# Altium schematic symbol library SCH_Connectors.SchLib: 5 symbols
Pins are listed as number, name and electrical type; pins without a type are passive.

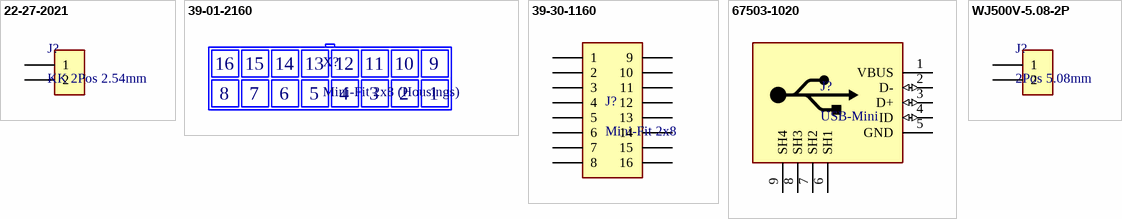
[diagram p0: symbols 22-27-2021 to WJ500V-5.08-2P]

## 22-27-2021
designator J?, comment KK 2Pos 2.54mm
CONN HEADER KK 2POS 2.54MM; Manufacturer: Molex; Number of Contacts: 2; Gender: Male; Contact Resistance: 20mR; Current Rating: 4A; Voltage Rating (AC): 250V; Insulation Resistance: 50GR; Voltage Rating: 500V; Approvals: UL,CSA; Supplier 1: LCSC; Manufacturer Part Number: 22-27-2021; RoHS: Yes; Category: Headers and Wire Housings; Stock 1: 172970; Pricing 1: 5=0,11890, 50=0,09740, 150=0,08670, 500=0,06870, 3000=0,06250, 6000=0,05930 (USD); Mount: Through Hole; Contact Plating: Tin; Contact Material: Tin; Color: White; Housing Color: Natural; Material: Nylon; Housing Material: Nylon; Weight: 0.00769oz; Min Operating Temperature: 0°C; Max Operating Temperature: 75°C; Number of Rows: 1; Termination: Through Hole; Orientation: Straight; Contact Gender: Male; Number of Positions: 2; Number of Circuits: 2; Voltage Rating (DC): 250V; Series: 6410; Package Quantity: 24000; Max Current Rating: 4A; Packaging: Bulk; Working Voltage: 250V; Contact Type: -; Length: 10.16mm; Height: 11.7mm; Pitch: 2.54mm; Lead Pitch: 2.54mm; Depth: 5.8mm; Radiation Hardening: No; Lead Free: Lead Free; Flammability Rating: UL94 V-0; RoHS Compliant: Yes; ComponentLink1URL: https://datasheet.ciiva.com/30177/113940022272021-pcb-headers-30177601.pdf?src-supplier=Onlinecomponents.com; ComponentLink1Description: https://datasheet.ciiva.com/30177/113940022272021-pcb-headers-30177601.pdf?src-supplier=Onlinecomponents.com; ComponentLink2URL: https://datasheet.ciiva.com/5154/0022272021-pcb-headers-227458-5154933.pdf?src-supplier=Mouser; ComponentLink2Description: https://datasheet.ciiva.com/5154/0022272021-pcb-headers-227458-5154933.pdf?src-supplier=Mouser; ComponentLink3URL: https://datasheet.ciiva.com/19462/879254-19462349.pdf?src-supplier=Jameco; ComponentLink3Description: https://datasheet.ciiva.com/19462/879254-19462349.pdf?src-supplier=Jameco; ComponentLink4URL: https://datasheet.ciiva.com/15217/getdatasheetpartid-163454-15217683.pdf?src-supplier=Verical; ComponentLink4Description: https://datasheet.ciiva.com/15217/getdatasheetpartid-163454-15217683.pdf?src-supplier=Verical; Supplier Part Number 1: C293316; Case/Package: PTH-2
footprint 22-27-2021
pins: 1, 2

## 39-01-2160
designator X?, comment Mini-Fit 2x8 (Housings)
CONN RCPT HSG 16POS 4.20MM; Manufacturer: Molex; Connector Type: Receptacle,Power,Rectangular; Gender: Receptacle; Max Voltage Rating (DC): 600V; Number of Positions: 16; Contact Resistance: 10mR; Current Rating: 13A; Voltage Rating (AC): 250V; Pitch: 4.2mm; Row Spacing: 0.165inch; Approvals: UL,CSA,TUV; Glow Wire Compliant: Non-compliant; Supplier 1: Digi-Key; Manufacturer Part Number: 39-01-2160; RoHS: Yes; Category: Headers and Wire Housings; Stock 1: 27697; Pricing 1: 1=0,76000, 10=0,63100, 100=0,52620, 1000=0,42097, 2500=0,38150 (USD); Mount: Free Hanging,Cable; Color: Natural; Housing Material: Nylon; Material: Nylon; Housing Color: Natural; Min Operating Temperature: -40°C; Max Operating Temperature: 105°C; Packaging: Bulk; Termination: Crimp; Orientation: Straight; Series: Mini-Fit® Jr™ 5557; Number of Rows: 2; Number of Contacts: 16; Fastening Type: Latch; Number of Poles: 16; Contact Gender: Female; Package Quantity: 250; Voltage Rating: 600V; Working Voltage: 250V; Contact Type: Female Socket; Max Voltage Rating (AC): 600V; Length: 34.8mm; Width: 15.1mm; Depth: 19.6mm; Radiation Hardening: No; RoHS Compliant: Yes; Halogen Free: Low Halogen; Lead Free: Lead Free; Flammability Rating: UL94 V-2; ComponentLink1URL: https://datasheet.ciiva.com/30103/0039012160-crimp-housings-30103557.pdf?src-supplier=Onlinecomponents.com; ComponentLink1Description: https://datasheet.ciiva.com/30103/0039012160-crimp-housings-30103557.pdf?src-supplier=Onlinecomponents.com; ComponentLink2URL: https://datasheet.ciiva.com/16127/700039012160-crimp-housings-16127229.pdf?src-supplier=Onlinecomponents.com; ComponentLink2Description: https://datasheet.ciiva.com/16127/700039012160-crimp-housings-16127229.pdf?src-supplier=Onlinecomponents.com; ComponentLink3URL: https://datasheet.ciiva.com/5159/0039012160-crimp-housings-140014-5159610.pdf?src-supplier=Mouser; ComponentLink3Description: https://datasheet.ciiva.com/5159/0039012160-crimp-housings-140014-5159610.pdf?src-supplier=Mouser; ComponentLink4URL: https://datasheet.ciiva.com/11740/0900766b8002166a-11740658.pdf?src-supplier=RSComponents; ComponentLink4Description: https://datasheet.ciiva.com/11740/0900766b8002166a-11740658.pdf?src-supplier=RSComponents; ComponentLink5URL: https://datasheet.ciiva.com/1446/1637266-1446512.pdf?src-supplier=Element14; ComponentLink5Description: https://datasheet.ciiva.com/1446/1637266-1446512.pdf?src-supplier=Element14; ComponentLink6URL: https://datasheet.ciiva.com/18453/70190671-18453707.pdf?src-supplier=Allied+Electronics; ComponentLink6Description: https://datasheet.ciiva.com/18453/70190671-18453707.pdf?src-supplier=Allied+Electronics; ComponentLink7URL: https://datasheet.ciiva.com/10392/0039012160-crimp-housings-10392206.pdf?src-supplier=Avnet; ComponentLink7Description: https://datasheet.ciiva.com/10392/0039012160-crimp-housings-10392206.pdf?src-supplier=Avnet; Supplier Part Number 1: WM3707-ND; Case/Package: CABLE-16
footprint 39-01-2160
text: 15; 14; 13; 12; 11; 10; 9; 8; 7; 6; 5; 4; 3; 1

## 39-30-1160
designator J?, comment Mini-Fit 2x8
CONN HEADER R/A 16POS 4.2MM; Manufacturer: Molex; Number of Contacts: 16; Contact Resistance: 10mR; Current Rating: 13A; Connector Type: Power,Rectangular; Gender: Male; Insulation Resistance: 1GR; Mating Cycles: 30; Voltage Rating (AC): 600V; Max Current Rating: 6A; Approvals: UL,CSA,TUV; Supplier 1: Digi-Key; Manufacturer Part Number: 39-30-1160; RoHS: Yes; Category: Headers and Wire Housings; Stock 1: 5712; Pricing 1: 1=2,85000, 10=2,50500, 100=1,99290, 1000=1,65122, 5000=1,48041 (USD); Mount: Through Hole; Contact Material: Brass; Contact Plating: Copper,Tin; Housing Material: Nylon; Color: Natural; Housing Color: Natural; Material: Nylon; Min Operating Temperature: -40°C; Max Operating Temperature: 105°C; Termination: Solder; Orientation: Right Angle; Number of Rows: 2; Series: Mini-Fit Jr.; Packaging: Bag; Number of Positions: 16; Number of Poles: 16; Voltage Rating: 600V; Package Quantity: 800; Contact Gender: Male; Working Voltage: 600V; Max Voltage Rating (AC): 600V; Voltage Rating (DC): 600V; Length: 34.8mm; Height: 11.4mm; Pitch: 4.2mm; Row Spacing: 4.2mm; Depth: 19.4mm; Radiation Hardening: No; ELV: Compliant; Lead Free: Lead Free; Flammability Rating: UL94 V-2; RoHS Compliant: Yes; ComponentLink1URL: https://datasheet.ciiva.com/19462/1969260-19462101.pdf?src-supplier=Jameco; ComponentLink1Description: https://datasheet.ciiva.com/19462/1969260-19462101.pdf?src-supplier=Jameco; ComponentLink2URL: https://datasheet.ciiva.com/1488/1786383-1488989.pdf?src-supplier=Newark; ComponentLink2Description: https://datasheet.ciiva.com/1488/1786383-1488989.pdf?src-supplier=Newark; ComponentLink3URL: https://datasheet.ciiva.com/11750/0900766b805f2e93-11750195.pdf?src-supplier=RSComponents; ComponentLink3Description: https://datasheet.ciiva.com/11750/0900766b805f2e93-11750195.pdf?src-supplier=RSComponents; ComponentLink4URL: https://datasheet.ciiva.com/43510/53970039301160-pcb-headers-43510555.pdf?src-supplier=Onlinecomponents.com; ComponentLink4Description: https://datasheet.ciiva.com/43510/53970039301160-pcb-headers-43510555.pdf?src-supplier=Onlinecomponents.com; Supplier Part Number 1: WM1358-ND; Case/Package: PTH-16
footprint 39-30-1160
pins: 1, 2, 3, 4, 5, 6, 7, 8, 9, 10, 11, 12, 13, 14, 15, 16

## 67503-1020
designator J?, comment USB-Mini
CONN RCPT USB2.0 MINI B SMD R/A; Manufacturer: Molex; Manufacturer Part Number: 67503-1020; Number of Terminals/Pins: 5; Gender: Receptacle; Connector Type: USB,Receptacle; Number of Ports: 1; Insulation Resistance: 100MR; Current Rating: 1A; Shielding: Shielded; Voltage Rating: 30V; Contact Resistance: 50mR; Max Voltage Rating (DC): 3.03kV; Data Rate: 480Mbps; Number of Logic Blocks (LABs): 56480; Number of Logic Elements/Cells: 149500; RAM Size: 7880704b; Number of I/Os: 240; Pitch: 0.8mm; Glow Wire Compliant: Non-compliant; RoHS: Yes; Category: USB Connectors; Stock 1: 29165; Pricing 1: 1=1,20000, 10=0,99300, 100=0,82720 (USD); Case/Package: SMD-9; Contact Plating: Gold; Contact Material: Bronze,Copper Alloy,Copper; Color: Black,Grey; Insulation Color: Black; Housing Material: Nylon; Min Operating Temperature: 0°C; Max Operating Temperature: 50°C; Packaging: Tape and Reel; Termination: Solder; Number of Contacts: 5; Orientation: Right Angle; Series: 67503; Package Quantity: 1; Number of Positions: 5; USB Standard: USB 2.0; Features: Shielded; Number of Circuits: 5; Number of Rows: 1; Max Voltage Rating (AC): 30V; Working Voltage: 30V; Voltage Rating (AC): 30V; Length: 9.9mm; Width: 6.9mm; Depth: 9mm; Terminal Pitch: 0.8mm; Radiation Hardening: No; Flammability Rating: UL94 V-0; Lead Free: Lead Free; RoHS Compliant: Yes; ComponentLink2URL: https://datasheet.ciiva.com/16143/1693580675031020-io-nectors-16143316.pdf?src-supplier=Onlinecomponents.com; ComponentLink2Description: https://datasheet.ciiva.com/16143/1693580675031020-io-nectors-16143316.pdf?src-supplier=Onlinecomponents.com; Supplier 1: LCSC; Supplier 2: Digi-Key; Supplier Part Number 1: C2681563; Supplier Part Number 2: WM5461CT-ND
footprint 67503-1020
pins: 1 VBUS (power), 2 D- (io), 3 D+ (io), 4 ID (io), 5 GND (power), 6 SH1, 7 SH2, 8 SH3, 9 SH4

## WJ500V-5.08-2P
designator J?, comment 2Pos 5.08mm
TERMINAL BLOCK 2POS 5.08MM; Manufacturer: Kangnex; Manufacturer Part Number: WJ500V-5.08-2P; Supplier 1: LCSC; RoHS: Yes; Stock 1: 117360; Pricing 1: 5=0,10670, 50=0,08630, 150=0,07620, 500=0,06720, 2500=0,06110, 5000=0,05810 (USD); Supplier Part Number 1: C8465; Category: Teminal Block; Case/Package: PTH-2
footprint WJ500V-5.08-2P
pins: 1, 2